# Altium footprint library 436331045822.PcbLib: 1 footprints
Each footprint in its own frame and in the unit in brackets; x right, y up, seen from the top. Pads: shape width x height; smd on the part's side, far side on the other; paste and mask are expansions set on the pad; w line width, h text height; cw(c..) or ccw(c..) is an arc to the next point about the centre after c.
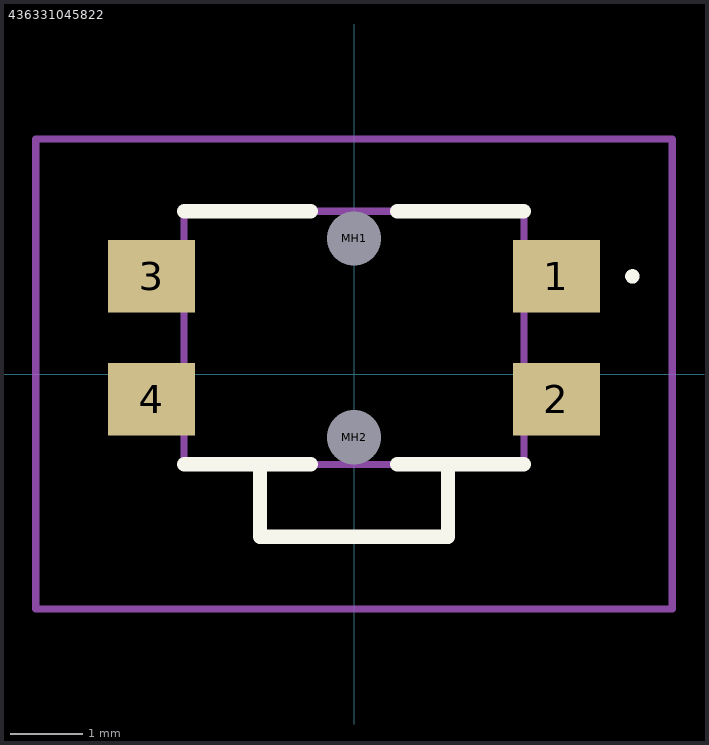
[diagram p0: the footprint, top view; thin cyan lines are the x and y axes]

## 436331045822 [mm]
pads (6):
  rect 1.2x1 smd: 1(2.8,1.35) 2(2.8,-0.35) 3(-2.8,1.35) 4(-2.8,-0.35)
  round 0.375 hole 0.75 unplated: MH1(0,1.875) MH2(0,-0.875)
Top Overlay:
  lines w0.1: 3.8,1.35 3.8,1.35 ; 3.8,1.35 ccw(c3.85,1.35) 3.9,1.35 ; 3.8,1.35 cw(c3.85,1.35) 3.9,1.35 ; 3.9,1.35 3.9,1.35
  lines w0.2: -2.35,-1.25 -0.6,-1.25 ; -2.35,2.25 -0.6,2.25 ; -1.3,-1.25 -1.3,-2.25 1.3,-2.25 1.3,-1.25 ; 0.6,-1.25 2.35,-1.25 ; 0.6,2.25 2.35,2.25
Mechanical 15:
  lines w0.1: -1.3,-1.25 -1.3,-2.25 1.3,-2.25 1.3,-1.25 ; -2.35,-1.25 2.35,-1.25 2.35,2.25 -2.35,2.25 -2.35,-1.25
Mechanical 20:
  lines w0.1: -4.4,-3.25 4.4,-3.25 4.4,3.25 -4.4,3.25 -4.4,-3.25